# Altium footprint library 载板20220818.PcbLib: 53 footprints (part 1 of 4)
Each footprint in its own frame and in the unit in brackets; x right, y up, seen from the top. Pads: shape width x height; smd on the part's side, far side on the other; paste and mask are expansions set on the pad; w line width, h text height; cw(c..) or ccw(c..) is an arc to the next point about the centre after c.
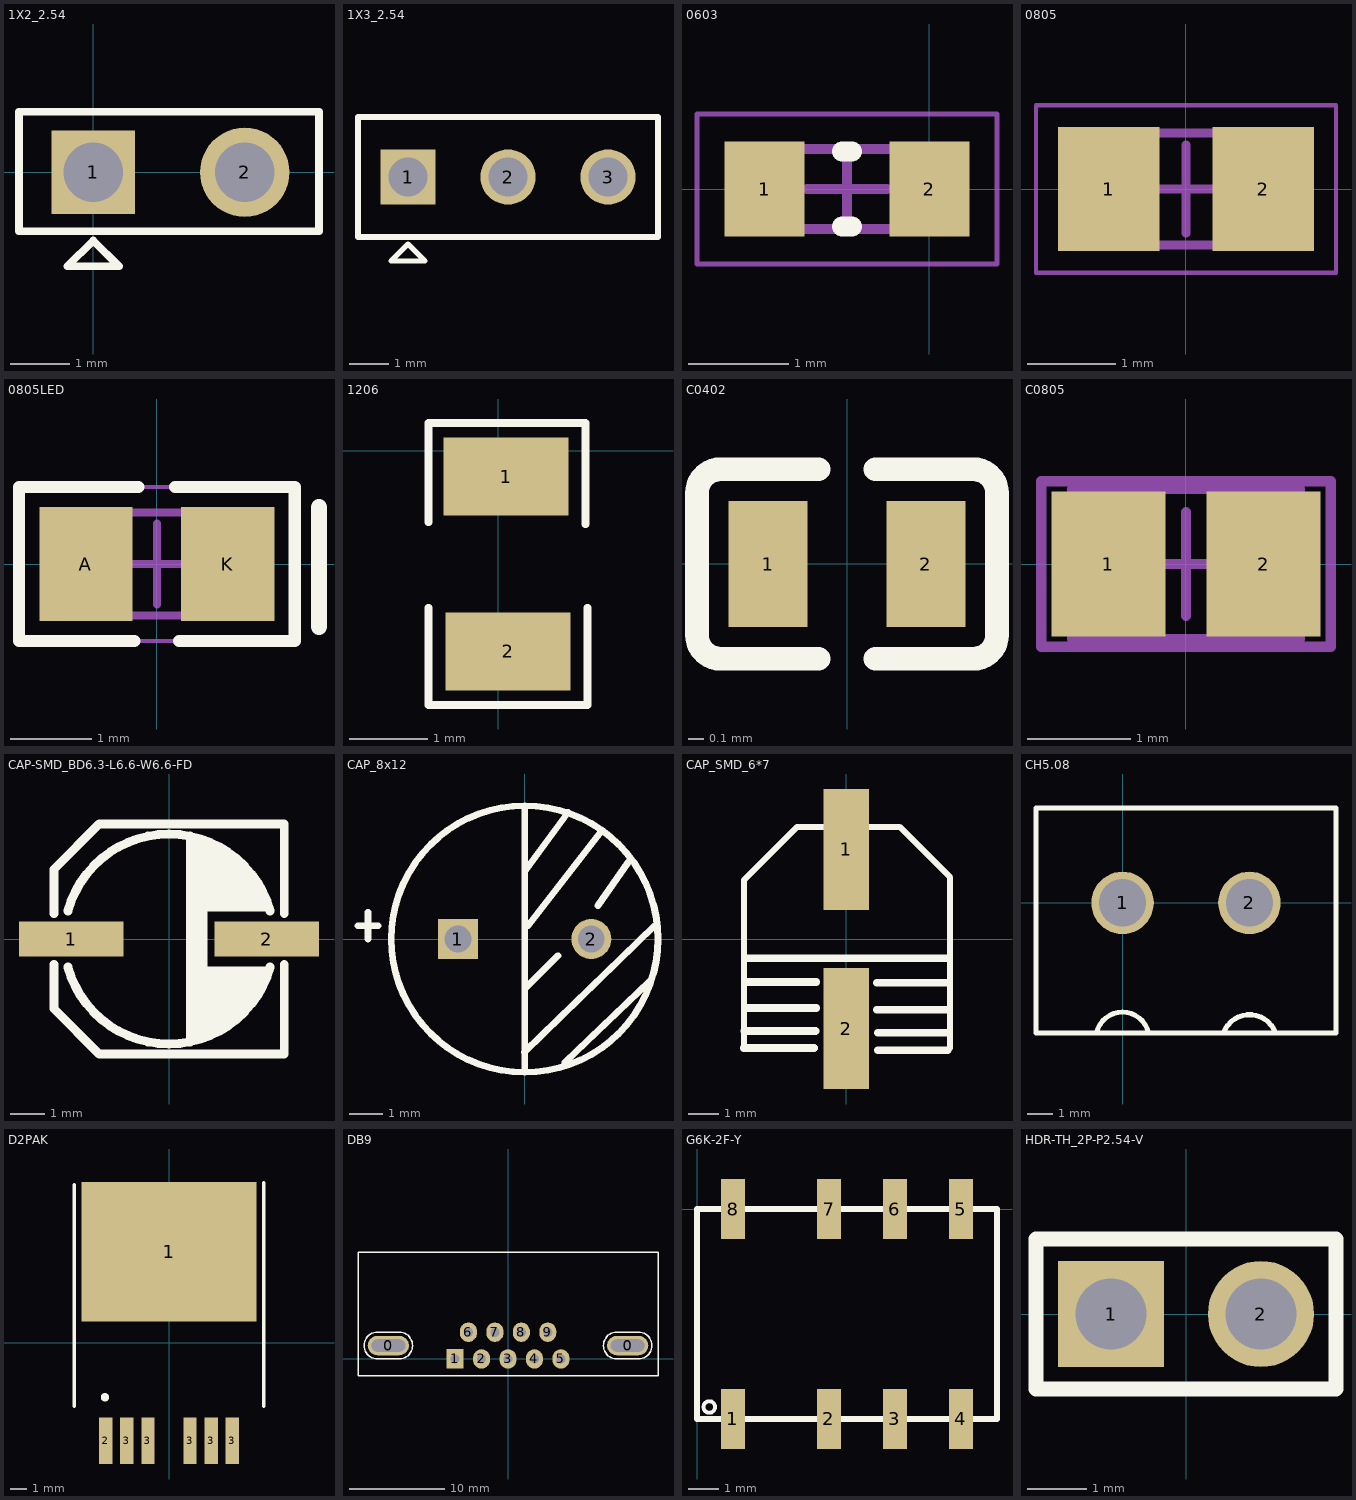
[diagram p0: the footprints below, top view; thin cyan lines are the x and y axes]

## 1X2_2.54 [mm]
pads (2):
  rect 1.4x1.4 hole 1: 1(0,0)
  round 1.5 hole 1: 2(2.54,0)
Top Overlay:
  lines w0.127: -1.245,-0.991 3.785,-0.991 3.785,1.016 -1.245,1.016 -1.245,-0.991 ; -0.432,-1.575 0.432,-1.575 0,-1.143 -0.432,-1.575

## 1X3_2.54 [mm]
pads (3):
  rect 1.4x1.4 hole 1: 1(-76.2,38.1)
  round 1.4 hole 1: 2(-73.66,38.1) 3(-71.12,38.1)
Top Overlay:
  lines w0.127: -76.632,35.966 -75.768,35.966 -76.2,36.398 -76.632,35.966
  lines w0.152: -77.47,36.576 -69.85,36.576 -69.85,39.624 -77.47,39.624 -77.47,36.576

## 0603 [mm]
pads (2):
  rect 0.8x0.95 smd: 1(-1.65,0) 2(0,0)
Top Overlay:
  lines w0.2: -0.875,-0.375 -0.775,-0.375 ; -0.875,0.375 -0.775,0.375
Mechanical 13:
  lines w0.1: -1.625,-0.4 -1.625,0.4 -0.025,0.4 -0.025,-0.4 -1.625,-0.4
Mechanical 15:
  lines w0.05: -2.325,-0.75 -2.325,0.75 0.675,0.75 0.675,-0.75 -2.325,-0.75
  lines w0.1: -1.225,0 -0.425,0 ; -0.825,-0.4 -0.825,0.4
3D body: height 0.5, standoff 0, extent -1.325,-0.4 -0.325,0.4
3D body: height 0.5, standoff 0, extent -1.625,-0.4 -1.325,0.4
3D body: height 0.5, standoff 0, extent -0.325,-0.4 -0.025,0.4

## 0805 [mm] "Chip Capacitor, 2-Leads, Body 2.00x1.27mm, IPC Medium Density"
height 1.25
pads (2):
  rect 1.15x1.4 smd: 1(-0.875,0) 2(0.875,0)
Mechanical 13:
  lines w0.1: -1,-0.635 -1,0.635 1,0.635 1,-0.635 -1,-0.635
Mechanical 15:
  lines w0.05: -1.7,-0.95 -1.7,0.95 1.7,0.95 1.7,-0.95 -1.7,-0.95
  lines w0.1: -0.5,0 0.5,0 ; 0,-0.5 0,0.5
3D body: height 1.25, standoff 0, extent -0.55,-0.635 0.55,0.635
3D body: height 1.25, standoff 0, extent -1,-0.635 -0.55,0.635
3D body: height 1.25, standoff 0, extent 0.55,-0.635 1,0.635

## 0805LED [mm] "Chip Capacitor, 2-Leads, Body 2.00x1.27mm, IPC Medium Density"
height 1.25
pads (2):
  rect 1.15x1.4 smd: A(-0.875,0) K(0.875,0)
Top Overlay:
  lines w0.15: -0.275,-0.95 -1.7,-0.95 -1.7,0.95 -0.225,0.95 ; 0.225,0.95 1.7,0.95 1.7,-0.95 0.275,-0.95
  lines w0.2: 2,-0.775 2,0.7
Mechanical 13:
  lines w0.1: -1,-0.635 -1,0.635 1,0.635 1,-0.635 -1,-0.635
Mechanical 15:
  lines w0.05: -1.7,-0.95 -1.7,0.95 1.7,0.95 1.7,-0.95 -1.7,-0.95
  lines w0.1: -0.5,0 0.5,0 ; 0,-0.5 0,0.5
3D body: height 1.25, standoff 0, extent -0.55,-0.635 0.55,0.635
3D body: height 1.25, standoff 0, extent -1,-0.635 -0.55,0.635
3D body: height 1.25, standoff 0, extent 0.55,-0.635 1,0.635

## 1206 [mm]
height 1.25
pads (2):
  rect 1.6x1 smd: 1(0.102,-0.33) 2(0.127,-2.565)
Top Overlay:
  lines w0.1: -0.889,-2.007 -0.889,-3.251 1.143,-3.251 1.143,-2.007 ; -0.889,-0.914 -0.889,0.356 1.118,0.356 1.118,-0.94

## C0402 [mm]
pads (2):
  rect 0.5x0.8 smd: 1(-0.5,0) 2(0.5,0)
Top Overlay:
  lines w0.15: -0.18,-0.6 -0.8,-0.6 cw(c-0.8,-0.45) -0.95,-0.45 -0.95,-0.4 -0.95,0.4 -0.95,0.45 cw(c-0.8,0.45) -0.8,0.6 -0.18,0.6 ; 0.18,-0.6 0.8,-0.6 ccw(c0.8,-0.45) 0.95,-0.45 0.95,-0.4 0.95,0.4 0.95,0.45 ccw(c0.8,0.45) 0.8,0.6 0.18,0.6

## C0805 [mm] "Chip Capacitor, Body 2.0x1.3mm, IPC High Density"
height 1.4
pads (2):
  rect 1.1x1.4 smd: 1(-0.75,0) 2(0.75,0)
Mechanical 13:
  lines w0.1: -1.1,-0.725 1.1,-0.725 1.1,0.725 -1.1,0.725 -1.1,-0.725
Mechanical 15:
  lines w0.1: -0.5,0 0.5,0 ; 0,-0.5 0,0.5 ; -1.4,-0.8 1.4,-0.8 1.4,0.8 -1.4,0.8 -1.4,-0.8
3D body: height 1.4, standoff 0, extent -1.1,-0.725 1.1,0.725

## CAP-SMD_BD6.3-L6.6-W6.6-FD [mm]
pads (2):
  rect 3x1 smd: 1(-2.8,0) 2(2.8,0)
Top Overlay:
  region: 0.5,-3 0.5,2.9 0.5,3 0.5,2.9 1.1,2.8 1.6,2.6 1.9,2.3 2.2,2.1 2.5,1.8 2.7,1.4 2.9,0.8 1.1,0.8 1.1,-0.8 2.9,-0.8 2.8,-1 2.7,-1.4 2.4,-1.7 2.2,-2.1 1.8,-2.4 1.4,-2.6 1,-2.8
  lines w0.254: -3.297,-0.732 -3.297,-1.999 -1.996,-3.299 3.302,-3.299 3.302,-0.732 ; -3.297,0.732 -3.297,1.999 -1.996,3.299 3.302,3.299 3.302,0.732 ; -2.9,-0.8 ccw(c0,0) 2.9,-0.8 ; -2.9,0.8 cw(c0,0) 2.9,0.8

## CAP_8x12 [mm] "插件铝电解电容"
height 12
pads (2):
  rect 1.2x1.2 hole 0.8: 1(-2,0)
  round 1.2 hole 0.8: 2(2,0)
Top Overlay:
  circle w0.203: c0,0 r4
  lines w0.2: -5,0.4 -4.4,0.4 ; -4.7,0 -4.7,0.8 ; -0.006,-3.394 3.9,0.4 ; 0,-4 0,4 ; 0,-1.5 1,-0.5 ; 0.035,2.075 1.3,3.8 ; 0.1,0.4 2.286,3.211 ; 1.2,-3.7 3.759,-1.257 ; 2.2,1 3.1,2.3

## CAP_SMD_6*7 [mm] "贴片电解电容"
pads (2):
  rect 1.5x4 smd: 1(0,2.965) 2(0,-2.965)
Top Overlay:
  lines w0.2: -3.39,-3.608 -3.39,1.947 -1.625,3.712 1.765,3.712 3.44,2.037 3.44,-3.608
  lines w0.254: -3.39,-3.608 -1.068,-3.608 ; -3.378,-3.048 -1.016,-3.048 ; -3.353,-1.422 -0.991,-1.422 ; -3.353,-0.635 3.404,-0.635 ; -3.277,-2.286 -0.991,-2.286 ; 1.016,-2.337 3.404,-2.337 ; 1.016,-1.448 3.404,-1.448 ; 1.041,-3.683 3.365,-3.683 ; 1.041,-3.099 3.415,-3.099
3D body: height 5.4, standoff 0, extent -3.29,-3.51 3.31,3.49

## CH5.08 [mm]
height 3.2
pads (2):
  round 2.5 hole 1.9: 1(0,0) 2(5.08,0)
Top Overlay:
  lines w0.203: -1.041,-5.2 cw(c0,-5.433) 1.041,-5.2 ; 4.039,-5.2 cw(c5.08,-5.578) 6.121,-5.2 ; -3.46,-5.2 -3.46,3.8 8.54,3.8 8.54,-5.2 -3.46,-5.2

## D2PAK [mm] "D2-PAK/TO-263-AB; 3 Leads (1 Cropped); Body 15.5 (inc. leads) x 10.5 mm (LxW max)"
height 4.69
pads (7):
  rect 10.55x8.4 smd: 1(0,5.5)
  rect 0.8x2.8 smd: 2(-3.81,-5.893) 3(-2.54,-5.893) 3(-1.27,-5.893) 3(1.27,-5.893) 3(2.54,-5.893) 3(3.81,-5.893)
Top Overlay:
  circle w0.25: c-3.861,-3.277 r0.125
  lines w0.2: -5.715,-3.81 -5.715,9.525 ; 5.715,-3.81 5.715,9.652

## DB9 [mil]
pads (11):
  oval 170x80 hole 50 slot 140 at 0 deg: 0(-493,55) 0(493,55)
  rect 70x80 hole 38: 1(-218,0)
  oval 70x80 hole 38: 2(-109,0) 3(0,0) 4(109,0) 5(218,0) 6(-163,110) 7(-54,110) 8(55,110) 9(164,110)
Top Overlay:
  lines w6: -618,-70 618,-70 618,440 -618,440 -618,-70 ; -538,0 cw(c-538,55) -538,110 -448,110 cw(c-448,55) -448,0 -538,0 ; 448,0 cw(c448,55) 448,110 538,110 cw(c538,55) 538,0 448,0

## G6K-2F-Y [mm]
height 4.7
pads (8):
  rect 0.8x2 smd mask+0.05: 1(1.2,-7) 2(4.4,-7) 3(6.6,-7) 4(8.8,-7) 5(8.8,0) 6(6.6,0) 7(4.4,0) 8(1.2,0)
Top Overlay:
  circle w0.127: c0.41,-6.6 r0.192
  lines w0.203: 4.136,0 4.141,0.005 ; 10,-6.999 10.001,-7 ; 0,0 0,-7 10.001,-7 ; 0,0 0,0 ; 0,0 10,0 10,-7

## HDR-TH_2P-P2.54-V [mm]
pads (2):
  rect 1.8x1.8 hole 1.2: 1(-1.27,0)
  round 1.8 hole 1.2: 2(1.27,0)
Top Overlay:
  lines w0.254: -2.54,-1.27 -2.54,1.27 2.54,1.27 2.54,-1.27 -2.54,-1.27